# Altium schematic symbol library TMS320F28035PAGS.SchLib: 1 symbol
Pins are listed as number, name and electrical type; pins without a type are passive.

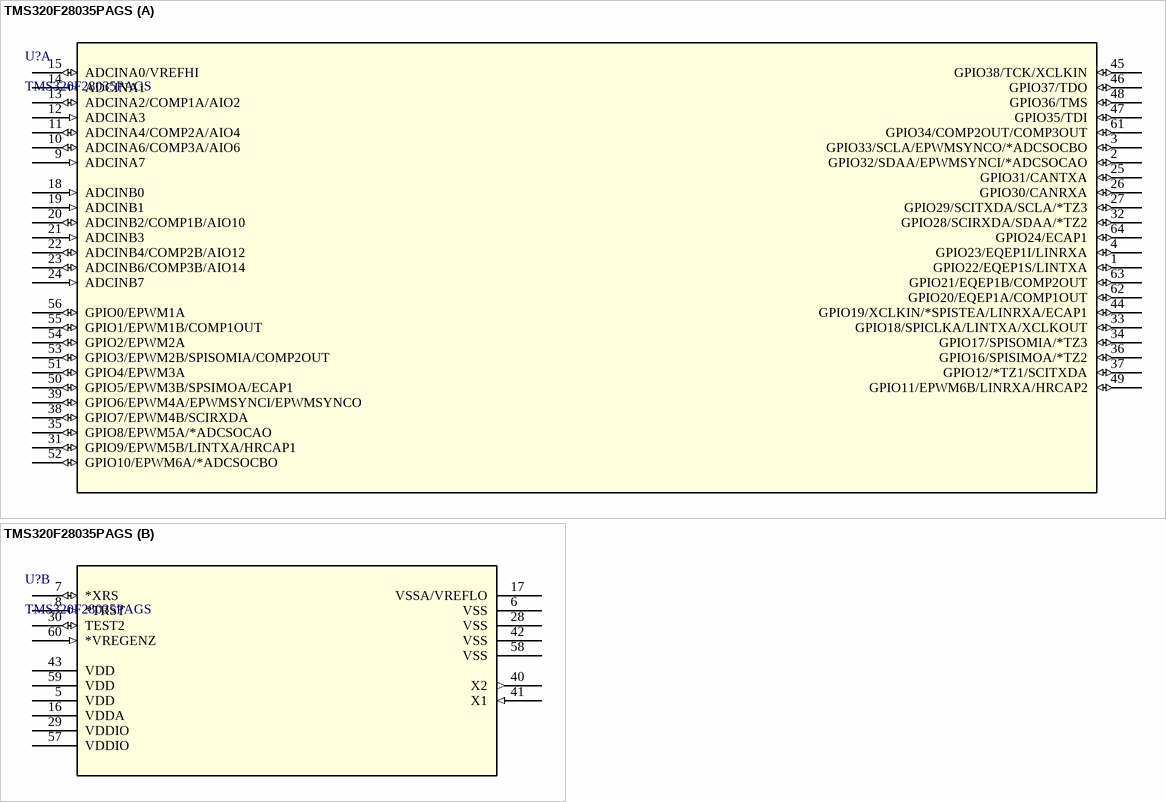
[diagram p0: symbol TMS320F28035PAGS]

## TMS320F28035PAGS
designator U?
No Description Available; Vendor: TEXAS INSTRUMENTS; Manufacturer_Part_Number: TMS320F28035PAGS; Copyright: Copyright (C) 2021 Accelerated Designs. All rights reserved; RefDes: RefDes; Type: DEV
footprint PAG64
part A pins: 1 GPIO22/EQEP1S/LINTXA (io), 2 GPIO32/SDAA/EPWMSYNCI/*ADCSOCAO (io), 3 GPIO33/SCLA/EPWMSYNCO/*ADCSOCBO (io), 4 GPIO23/EQEP1I/LINRXA (io), 9 ADCINA7 (in), 10 ADCINA6/COMP3A/AIO6 (io), 11 ADCINA4/COMP2A/AIO4 (io), 12 ADCINA3 (in), 13 ADCINA2/COMP1A/AIO2 (io), 14 ADCINA1 (in), 15 ADCINA0/VREFHI (io), 18 ADCINB0 (in), 19 ADCINB1 (in), 20 ADCINB2/COMP1B/AIO10 (io), 21 ADCINB3 (in), 22 ADCINB4/COMP2B/AIO12 (io), 23 ADCINB6/COMP3B/AIO14 (io), 24 ADCINB7 (in), 25 GPIO31/CANTXA (io), 26 GPIO30/CANRXA (io), 27 GPIO29/SCITXDA/SCLA/*TZ3 (io), 31 GPIO9/EPWM5B/LINTXA/HRCAP1 (io), 32 GPIO28/SCIRXDA/SDAA/*TZ2 (io), 33 GPIO18/SPICLKA/LINTXA/XCLKOUT (io), 34 GPIO17/SPISOMIA/*TZ3 (io), 35 GPIO8/EPWM5A/*ADCSOCAO (io), 36 GPIO16/SPISIMOA/*TZ2 (io), 37 GPIO12/*TZ1/SCITXDA (io), 38 GPIO7/EPWM4B/SCIRXDA (io), 39 GPIO6/EPWM4A/EPWMSYNCI/EPWMSYNCO (io), 44 GPIO19/XCLKIN/*SPISTEA/LINRXA/ECAP1 (io), 45 GPIO38/TCK/XCLKIN (io), 46 GPIO37/TDO (io), 47 GPIO35/TDI (io), 48 GPIO36/TMS (io), 49 GPIO11/EPWM6B/LINRXA/HRCAP2 (io), 50 GPIO5/EPWM3B/SPSIMOA/ECAP1 (io), 51 GPIO4/EPWM3A (io), 52 GPIO10/EPWM6A/*ADCSOCBO (io), 53 GPIO3/EPWM2B/SPISOMIA/COMP2OUT (io), 54 GPIO2/EPWM2A (io), 55 GPIO1/EPWM1B/COMP1OUT (io), 56 GPIO0/EPWM1A (io), 61 GPIO34/COMP2OUT/COMP3OUT (io), 62 GPIO20/EQEP1A/COMP1OUT (io), 63 GPIO21/EQEP1B/COMP2OUT (io), 64 GPIO24/ECAP1 (io)
part B pins: 5 VDD (power), 6 VSS (power), 7 *XRS (io), 8 *TRST (in), 16 VDDA (power), 17 VSSA/VREFLO (power), 28 VSS (power), 29 VDDIO (power), 30 TEST2 (io), 40 X2 (out), 41 X1 (in), 42 VSS (power), 43 VDD (power), 57 VDDIO (power), 58 VSS (power), 59 VDD (power), 60 *VREGENZ (in)